# Altium schematic symbol library Schlib2.SchLib: 2 symbols
Pins are listed as number, name and electrical type; pins without a type are passive.

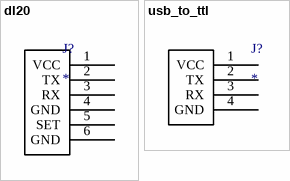
[diagram p0: symbols dl20 to usb_to_ttl]

## dl20
designator J?
footprint DL20
pins: 1 VCC (power), 2 TX, 3 RX, 4 GND (power), 5 SET, 6 GND (power)

## usb_to_ttl
designator J?
footprint USB_TO_TTL
pins: 1 VCC, 2 TX, 3 RX, 4 GND